# EAGLE library part MFJ-5569-12 (library CalPolyUCV)
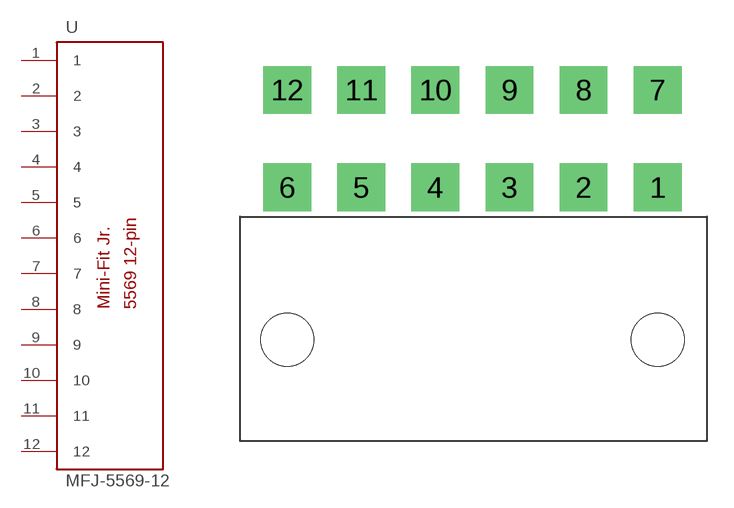
[diagram p0: symbol with the pads of MFJ-5569-12; footprint MFJ-5569-12]

Designator prefix -

## MFJ-5569-12  [MFJ-5569-12]
1  1
2  2
3  3
4  4
5  5
6  6
7  7
8  8
9  9
10  10
11  11
12  12

## Footprint MFJ-5569-12 (pad centres in mm)
drill 1.803 square: 1 10.541,3.429; 2 6.35,3.429; 3 2.159,3.429; 4 -2.032,3.429; 5 -6.223,3.429; 6 -10.414,3.429; 7 10.541,8.941; 8 6.35,8.941; 9 2.159,8.941; 10 -2.032,8.941; 11 -6.223,8.941; 12 -10.414,8.941
hole 2.997 at -10.414,-5.182
hole 2.997 at 10.541,-5.182